# EAGLE library part USB-C-16P-SMD-FLAT-SIDE (library USB Connector)
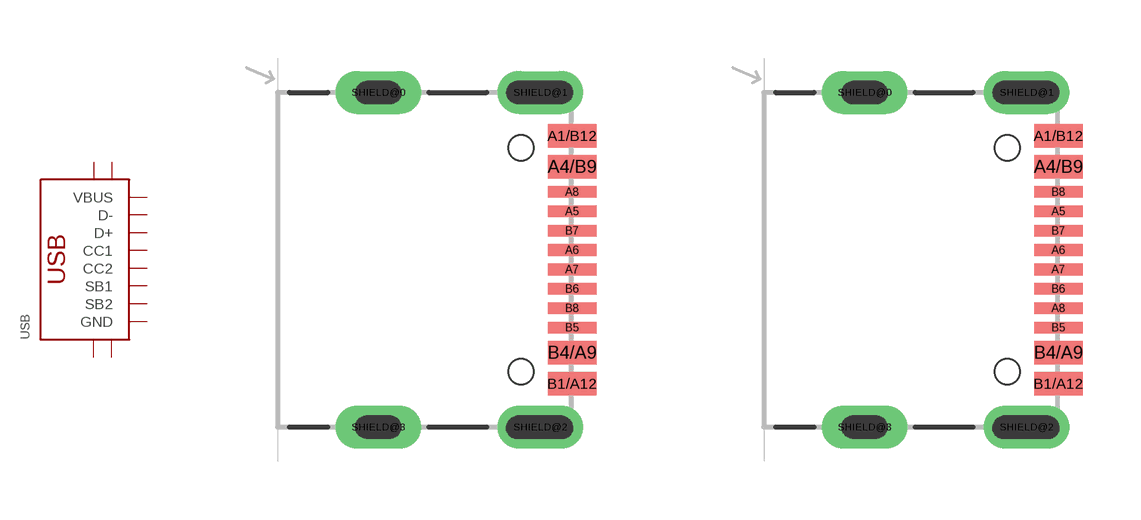
[diagram p8: symbol with the pads of USB-C-16P-SMD-FLAT-SIDE-TYPE-1; footprints USB-C-16P-SMD-FLAT-SIDE-TYPE-1, USB-C-16P-SMD-FLAT-SIDE-TYPE-2]

Designator prefix USB

## USB-C-16P-SMD-FLAT-SIDE-TYPE-1  [USB-C-16P-SMD-FLAT-SIDE-TYPE-1]
A1/B12  GND
A4/B9  VBUS
A5  CC1
A6  D+
A7  D-
A8  SB1
B1/A12  GND
B4/A9  VBUS
B5  CC2
B6  D+
B7  D-
B8  SB2
SHIELD@0  SHIELD
SHIELD@1  SHIELD
SHIELD@2  SHIELD
SHIELD@3  SHIELD

## USB-C-16P-SMD-FLAT-SIDE-TYPE-2  [USB-C-16P-SMD-FLAT-SIDE-TYPE-2]
Pads as for USB-C-16P-SMD-FLAT-SIDE-TYPE-1

## Footprint USB-C-16P-SMD-FLAT-SIDE-TYPE-1 (pad centres in mm)
Package for LCSC connector C167321
smd 1.25 x 0.6: A1/B12 5,3.2; A4/B9 5,2.4; B1/A12 5,-3.2; B4/A9 5,-2.4
smd 1.25 x 0.3: A5 5,1.25; A6 5,0.25; A7 5,-0.25; A8 5,1.75; B5 5,-1.75; B6 5,-0.75; B7 5,0.75; B8 5,-1.25
drill 0.6 pad 1 long: SHIELD@0 0,4.32; SHIELD@1 4.18,4.32; SHIELD@2 4.18,-4.32; SHIELD@3 0,-4.32
hole 0.65 at 3.68,2.89
hole 0.65 at 3.68,-2.89

## Footprint USB-C-16P-SMD-FLAT-SIDE-TYPE-2 (pad centres in mm)
Package for eBay connector from this seller <https://www.ebay.com/itm/10Pcs-USB-3-1-Type-C-Female-16Pin-4-Legs-SMT-Charging-Port-PCB-Socket-Connector/173108999862?ssPageName=STRK%3AMEBIDX%3AIT&_trksid=p2057872.m2749.l2649> Package for LCSC connector C319148
smd 1.25 x 0.6: A1/B12 5,3.2; A4/B9 5,2.4; B1/A12 5,-3.2; B4/A9 5,-2.4
smd 1.25 x 0.3: A5 5,1.25; A6 5,0.25; A7 5,-0.25; A8 5,-1.25; B5 5,-1.75; B6 5,-0.75; B7 5,0.75; B8 5,1.75
drill 0.6 pad 1 long: SHIELD@0 0,4.32; SHIELD@1 4.18,4.32; SHIELD@2 4.18,-4.32; SHIELD@3 0,-4.32
hole 0.65 at 3.68,2.89
hole 0.65 at 3.68,-2.89